# EAGLE library part LSM9DS0 (library KwanSystems)
9DoF sensor
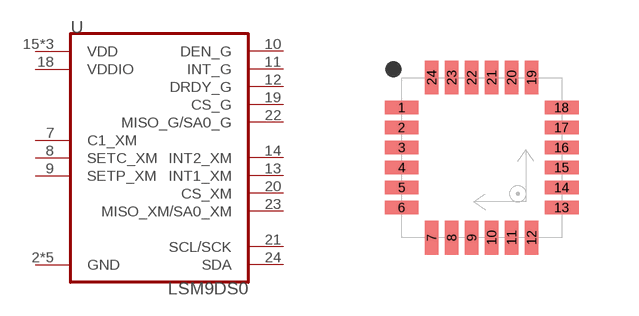
[diagram p37: symbol with the pads of LGA24_LSM; footprint LGA24_LSM]

Designator prefix -

## LSM9DS0  [LGA24_LSM]
2  GND  pwr
3  GND  pwr
4  GND  pwr
5  GND  pwr
6  GND  pwr
7  C1_XM  pas
8  SETC_XM  pas
9  SETP_XM  pas
10  DEN_G
11  INT_G
12  DRDY_G
13  INT1_XM
14  INT2_XM
15  VDD  pwr
16  VDD  pwr
17  VDD  pwr
18  VDDIO  pwr
19  CS_G
20  CS_XM
21  SCL/SCK
22  MISO_G/SA0_G
23  MISO_XM/SA0_XM
24  SDA

## Footprint LGA24_LSM (pad centres in mm)
smd 0.85 x 0.34: 1 -2,1.25; 2 -2,0.75; 3 -2,0.25; 4 -2,-0.25; 5 -2,-0.75; 6 -2,-1.25; 13 2,-1.25; 14 2,-0.75; 15 2,-0.25; 16 2,0.25; 17 2,0.75; 18 2,1.25
smd 0.34 x 0.85: 7 -1.25,-2; 8 -0.75,-2; 9 -0.25,-2; 10 0.25,-2; 11 0.75,-2; 12 1.25,-2; 19 1.25,2; 20 0.75,2; 21 0.25,2; 22 -0.25,2; 23 -0.75,2; 24 -1.25,2